# Altium schematic symbol library SCH - MCU - STM32 - ST MICROELECTRONICS STM32F412R(E-G)TX LQFP64.SchLib: 1 symbol
Pins are listed as number, name and electrical type; pins without a type are passive.

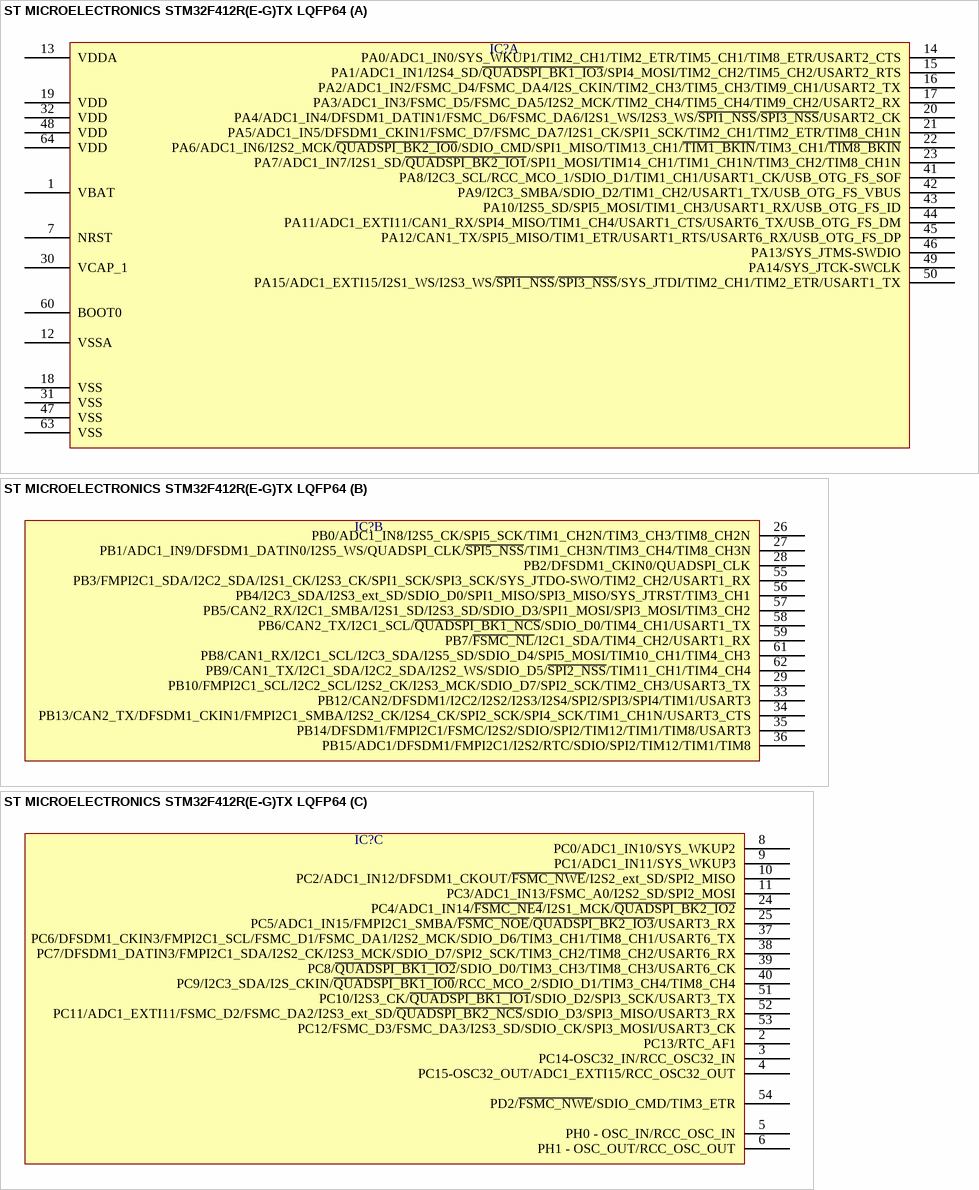
[diagram p0: symbol ST MICROELECTRONICS STM32F412R(E-G)TX LQFP64]

## ST MICROELECTRONICS STM32F412R(E-G)TX LQFP64
designator IC?  (value not drawn)
part A pins: 1 VBAT, 7 NRST, 12 VSSA, 13 VDDA, 14 PA0/ADC1_IN0/SYS_WKUP1/TIM2_CH1/TIM2_ETR/TIM5_CH1/TIM8_ETR/USART2_CTS, 15 PA1/ADC1_IN1/I2S4_SD/~{QUADSPI_BK1_IO3}/SPI4_MOSI/TIM2_CH2/TIM5_CH2/USART2_RTS, 16 PA2/ADC1_IN2/FSMC_D4/FSMC_DA4/I2S_CKIN/TIM2_CH3/TIM5_CH3/TIM9_CH1/USART2_TX, 17 PA3/ADC1_IN3/FSMC_D5/FSMC_DA5/I2S2_MCK/TIM2_CH4/TIM5_CH4/TIM9_CH2/USART2_RX, 18 VSS, 19 VDD, 20 PA4/ADC1_IN4/DFSDM1_DATIN1/FSMC_D6/FSMC_DA6/I2S1_WS/I2S3_WS/~{SPI1_NSS}/~{SPI3_NSS}/USART2_CK, 21 PA5/ADC1_IN5/DFSDM1_CKIN1/FSMC_D7/FSMC_DA7/I2S1_CK/SPI1_SCK/TIM2_CH1/TIM2_ETR/TIM8_CH1N, 22 PA6/ADC1_IN6/I2S2_MCK/~{QUADSPI_BK2_IO0}/SDIO_CMD/SPI1_MISO/TIM13_CH1/~{TIM1_BKIN}/TIM3_CH1/~{TIM8_BKIN}, 23 PA7/ADC1_IN7/I2S1_SD/~{QUADSPI_BK2_IO1}/SPI1_MOSI/TIM14_CH1/TIM1_CH1N/TIM3_CH2/TIM8_CH1N, 30 VCAP_1, 31 VSS, 32 VDD, 41 PA8/I2C3_SCL/RCC_MCO_1/SDIO_D1/TIM1_CH1/USART1_CK/USB_OTG_FS_SOF, 42 PA9/I2C3_SMBA/SDIO_D2/TIM1_CH2/USART1_TX/USB_OTG_FS_VBUS, 43 PA10/I2S5_SD/SPI5_MOSI/TIM1_CH3/USART1_RX/USB_OTG_FS_ID, 44 PA11/ADC1_EXTI11/CAN1_RX/SPI4_MISO/TIM1_CH4/USART1_CTS/USART6_TX/USB_OTG_FS_DM, 45 PA12/CAN1_TX/SPI5_MISO/TIM1_ETR/USART1_RTS/USART6_RX/USB_OTG_FS_DP, 46 PA13/SYS_JTMS-SWDIO, 47 VSS, 48 VDD, 49 PA14/SYS_JTCK-SWCLK, 50 PA15/ADC1_EXTI15/I2S1_WS/I2S3_WS/~{SPI1_NSS}/~{SPI3_NSS}/SYS_JTDI/TIM2_CH1/TIM2_ETR/USART1_TX, 60 BOOT0, 63 VSS, 64 VDD
part B pins: 26 PB0/ADC1_IN8/I2S5_CK/SPI5_SCK/TIM1_CH2N/TIM3_CH3/TIM8_CH2N, 27 PB1/ADC1_IN9/DFSDM1_DATIN0/I2S5_WS/QUADSPI_CLK/~{SPI5_NSS}/TIM1_CH3N/TIM3_CH4/TIM8_CH3N, 28 PB2/DFSDM1_CKIN0/QUADSPI_CLK, 29 PB10/FMPI2C1_SCL/I2C2_SCL/I2S2_CK/I2S3_MCK/SDIO_D7/SPI2_SCK/TIM2_CH3/USART3_TX, 33 PB12/CAN2/DFSDM1/I2C2/I2S2/I2S3/I2S4/SPI2/SPI3/SPI4/TIM1/USART3, 34 PB13/CAN2_TX/DFSDM1_CKIN1/FMPI2C1_SMBA/I2S2_CK/I2S4_CK/SPI2_SCK/SPI4_SCK/TIM1_CH1N/USART3_CTS, 35 PB14/DFSDM1/FMPI2C1/FSMC/I2S2/SDIO/SPI2/TIM12/TIM1/TIM8/USART3, 36 PB15/ADC1/DFSDM1/FMPI2C1/I2S2/RTC/SDIO/SPI2/TIM12/TIM1/TIM8, 55 PB3/FMPI2C1_SDA/I2C2_SDA/I2S1_CK/I2S3_CK/SPI1_SCK/SPI3_SCK/SYS_JTDO-SWO/TIM2_CH2/USART1_RX, 56 PB4/I2C3_SDA/I2S3_ext_SD/SDIO_D0/SPI1_MISO/SPI3_MISO/SYS_JTRST/TIM3_CH1, 57 PB5/CAN2_RX/I2C1_SMBA/I2S1_SD/I2S3_SD/SDIO_D3/SPI1_MOSI/SPI3_MOSI/TIM3_CH2, 58 PB6/CAN2_TX/I2C1_SCL/~{QUADSPI_BK1_NCS}/SDIO_D0/TIM4_CH1/USART1_TX, 59 PB7/~{FSMC_NL}/I2C1_SDA/TIM4_CH2/USART1_RX, 61 PB8/CAN1_RX/I2C1_SCL/I2C3_SDA/I2S5_SD/SDIO_D4/SPI5_MOSI/TIM10_CH1/TIM4_CH3, 62 PB9/CAN1_TX/I2C1_SDA/I2C2_SDA/I2S2_WS/SDIO_D5/~{SPI2_NSS}/TIM11_CH1/TIM4_CH4
part C pins: 2 PC13/RTC_AF1, 3 PC14-OSC32_IN/RCC_OSC32_IN, 4 PC15-OSC32_OUT/ADC1_EXTI15/RCC_OSC32_OUT, 5 PH0 - OSC_IN/RCC_OSC_IN, 6 PH1 - OSC_OUT/RCC_OSC_OUT, 8 PC0/ADC1_IN10/SYS_WKUP2, 9 PC1/ADC1_IN11/SYS_WKUP3, 10 PC2/ADC1_IN12/DFSDM1_CKOUT/~{FSMC_NWE}/I2S2_ext_SD/SPI2_MISO, 11 PC3/ADC1_IN13/FSMC_A0/I2S2_SD/SPI2_MOSI, 24 PC4/ADC1_IN14/~{FSMC_NE4}/I2S1_MCK/~{QUADSPI_BK2_IO2}, 25 PC5/ADC1_IN15/FMPI2C1_SMBA/~{FSMC_NOE}/~{QUADSPI_BK2_IO3}/USART3_RX, 37 PC6/DFSDM1_CKIN3/FMPI2C1_SCL/FSMC_D1/FSMC_DA1/I2S2_MCK/SDIO_D6/TIM3_CH1/TIM8_CH1/USART6_TX, 38 PC7/DFSDM1_DATIN3/FMPI2C1_SDA/I2S2_CK/I2S3_MCK/SDIO_D7/SPI2_SCK/TIM3_CH2/TIM8_CH2/USART6_RX, 39 PC8/~{QUADSPI_BK1_IO2}/SDIO_D0/TIM3_CH3/TIM8_CH3/USART6_CK, 40 PC9/I2C3_SDA/I2S_CKIN/~{QUADSPI_BK1_IO0}/RCC_MCO_2/SDIO_D1/TIM3_CH4/TIM8_CH4, 51 PC10/I2S3_CK/~{QUADSPI_BK1_IO1}/SDIO_D2/SPI3_SCK/USART3_TX, 52 PC11/ADC1_EXTI11/FSMC_D2/FSMC_DA2/I2S3_ext_SD/~{QUADSPI_BK2_NCS}/SDIO_D3/SPI3_MISO/USART3_RX, 53 PC12/FSMC_D3/FSMC_DA3/I2S3_SD/SDIO_CK/SPI3_MOSI/USART3_CK, 54 PD2/~{FSMC_NWE}/SDIO_CMD/TIM3_ETR